# Altium footprint library FCS_footprints.PcbLib: 1 footprints
Each footprint in its own frame and in the unit in brackets; x right, y up, seen from the top. Pads: shape width x height; smd on the part's side, far side on the other; paste and mask are expansions set on the pad; w line width, h text height; cw(c..) or ccw(c..) is an arc to the next point about the centre after c.
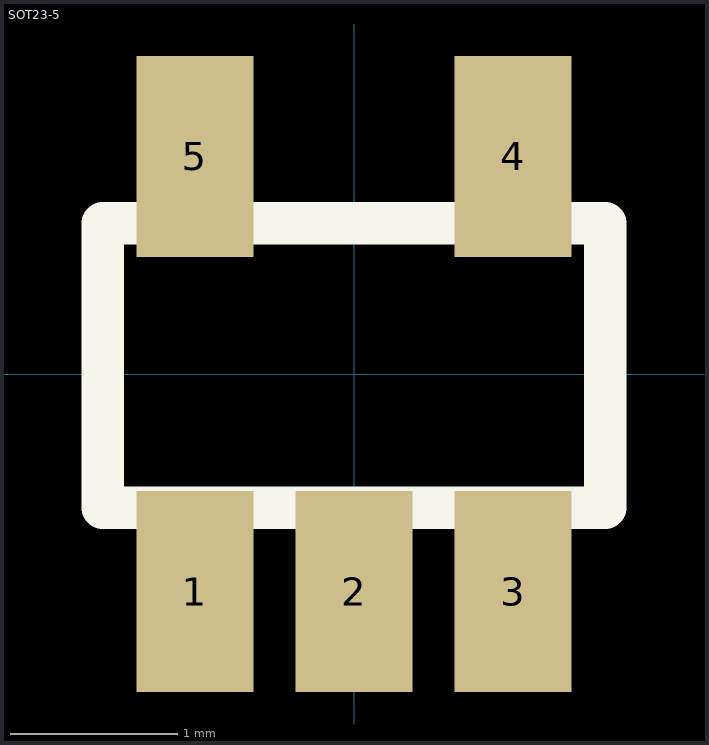
[diagram p0: the footprint, top view; thin cyan lines are the x and y axes]

## SOT23-5 [mm] "5 pin SOT 23"
pads (5):
  rect 0.7x1.2 smd: 1(-0.95,-1.3) 2(0,-1.3) 3(0.95,-1.3) 4(0.95,1.3) 5(-0.95,1.3)
Top Overlay:
  lines w0.254: -1.5,-0.8 1.5,-0.8 1.5,0.9 -1.5,0.9 -1.5,-0.8
3D body: height 1.45, standoff 0, extent -1.627,-0.927 1.627,1.027